# Altium footprint library Connector_Samtec_HLE_THT.PcbLib: 141 footprints (part 6 of 9)
Each footprint in its own frame and in the unit in brackets; x right, y up, seen from the top. Pads: shape width x height; smd on the part's side, far side on the other; paste and mask are expansions set on the pad; w line width, h text height; cw(c..) or ccw(c..) is an arc to the next point about the centre after c.
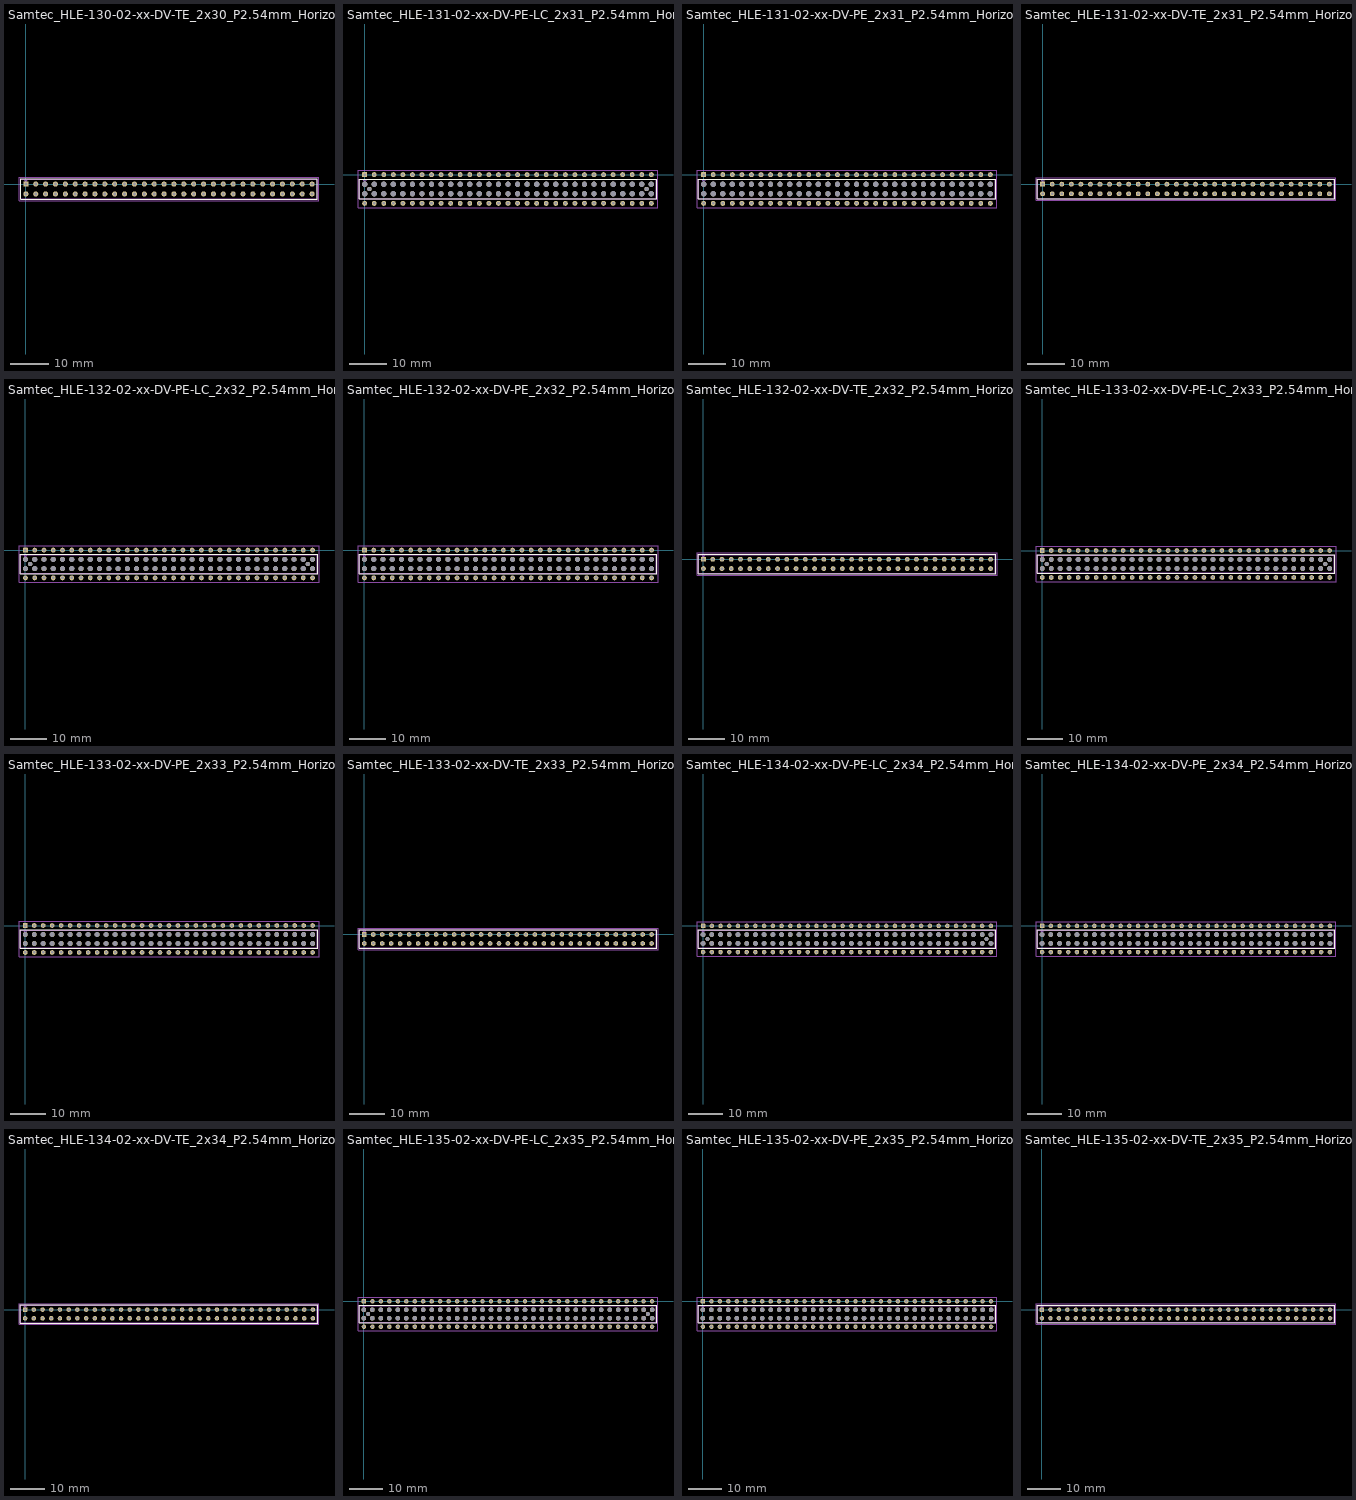
[diagram p5: the footprints below, top view; thin cyan lines are the x and y axes]

## Samtec_HLE-130-02-xx-DV-TE_2x30_P2.54mm_Horizontal [mm]
pads (60):
  rrect19% 1.31x1.31 hole 0.71: 1(0,0)
  round 1.31 hole 0.71: 2(0,-2.54) 3(2.54,0) 4(2.54,-2.54) 5(5.08,0) 6(5.08,-2.54) 7(7.62,0) 8(7.62,-2.54) 9(10.16,0) 10(10.16,-2.54) 11(12.7,0) 12(12.7,-2.54) 13(15.24,0) 14(15.24,-2.54) 15(17.78,0) 16(17.78,-2.54) 17(20.32,0) 18(20.32,-2.54) 19(22.86,0) 20(22.86,-2.54) 21(25.4,0) 22(25.4,-2.54) 23(27.94,0) 24(27.94,-2.54) 25(30.48,0) 26(30.48,-2.54) 27(33.02,0) 28(33.02,-2.54) 29(35.56,0) 30(35.56,-2.54) 31(38.1,0) 32(38.1,-2.54) 33(40.64,0) 34(40.64,-2.54) 35(43.18,0) 36(43.18,-2.54) 37(45.72,0) 38(45.72,-2.54) 39(48.26,0) 40(48.26,-2.54) 41(50.8,0) 42(50.8,-2.54) 43(53.34,0) 44(53.34,-2.54) 45(55.88,0) 46(55.88,-2.54) 47(58.42,0) 48(58.42,-2.54) 49(60.96,0) 50(60.96,-2.54) 51(63.5,0) 52(63.5,-2.54) 53(66.04,0) 54(66.04,-2.54) 55(68.58,0) 56(68.58,-2.54) 57(71.12,0) 58(71.12,-2.54) 59(73.66,0) 60(73.66,-2.54)
F.SilkS:
  lines w0.254: -1.38,-3.92 75.04,-3.92 75.04,1.38 -1.38,1.38 -1.38,-3.92
Top Assembly:
  lines w0.254: -0.5,1.27 0,0.563 0.5,1.27 ; -1.27,-3.81 74.93,-3.81 74.93,1.27 -1.27,1.27 -1.27,-3.81
  text "'.Designator'" at 32.783,-3.95 h1
Top Courtyard:
  lines w0.254: -1.77,-4.32 75.44,-4.32 75.44,1.77 -1.77,1.77 -1.77,-4.32
Top Designator:
  text ".Designator" at 29.217,-1.783 h1.52

## Samtec_HLE-131-02-xx-DV-PE-LC_2x31_P2.54mm_Horizontal [mm]
pads (126):
  rrect19% 1.31x1.31 hole 0.71: 1(0,0)
  round 1.31 hole 0.71: 2(0,-7.62) 3(2.54,0) 4(2.54,-7.62) 5(5.08,0) 6(5.08,-7.62) 7(7.62,0) 8(7.62,-7.62) 9(10.16,0) 10(10.16,-7.62) 11(12.7,0) 12(12.7,-7.62) 13(15.24,0) 14(15.24,-7.62) 15(17.78,0) 16(17.78,-7.62) 17(20.32,0) 18(20.32,-7.62) 19(22.86,0) 20(22.86,-7.62) 21(25.4,0) 22(25.4,-7.62) 23(27.94,0) 24(27.94,-7.62) 25(30.48,0) 26(30.48,-7.62) 27(33.02,0) 28(33.02,-7.62) 29(35.56,0) 30(35.56,-7.62) 31(38.1,0) 32(38.1,-7.62) 33(40.64,0) 34(40.64,-7.62) 35(43.18,0) 36(43.18,-7.62) 37(45.72,0) 38(45.72,-7.62) 39(48.26,0) 40(48.26,-7.62) 41(50.8,0) 42(50.8,-7.62) 43(53.34,0) 44(53.34,-7.62) 45(55.88,0) 46(55.88,-7.62) 47(58.42,0) 48(58.42,-7.62) 49(60.96,0) 50(60.96,-7.62) 51(63.5,0) 52(63.5,-7.62) 53(66.04,0) 54(66.04,-7.62) 55(68.58,0) 56(68.58,-7.62) 57(71.12,0) 58(71.12,-7.62) 59(73.66,0) 60(73.66,-7.62) 61(76.2,0) 62(76.2,-7.62)
  round 1.4 hole 1.4: Un1(0,-2.54) Un2(0,-5.08) Un4(2.54,-2.54) Un5(2.54,-5.08) Un6(5.08,-2.54) Un7(5.08,-5.08) Un8(7.62,-2.54) Un9(7.62,-5.08) Un10(10.16,-2.54) Un11(10.16,-5.08) Un12(12.7,-2.54) Un13(12.7,-5.08) Un14(15.24,-2.54) Un15(15.24,-5.08) Un16(17.78,-2.54) Un17(17.78,-5.08) Un18(20.32,-2.54) Un19(20.32,-5.08) Un20(22.86,-2.54) Un21(22.86,-5.08) Un22(25.4,-2.54) Un23(25.4,-5.08) Un24(27.94,-2.54) Un25(27.94,-5.08) Un26(30.48,-2.54) Un27(30.48,-5.08) Un28(33.02,-2.54) Un29(33.02,-5.08) Un30(35.56,-2.54) Un31(35.56,-5.08) Un32(38.1,-2.54) Un33(38.1,-5.08) Un34(40.64,-2.54) Un35(40.64,-5.08) Un36(43.18,-2.54) Un37(43.18,-5.08) Un38(45.72,-2.54) Un39(45.72,-5.08) Un40(48.26,-2.54) Un41(48.26,-5.08) Un42(50.8,-2.54) Un43(50.8,-5.08) Un44(53.34,-2.54) Un45(53.34,-5.08) Un46(55.88,-2.54) Un47(55.88,-5.08) Un48(58.42,-2.54) Un49(58.42,-5.08) Un50(60.96,-2.54) Un51(60.96,-5.08) Un52(63.5,-2.54) Un53(63.5,-5.08) Un54(66.04,-2.54) Un55(66.04,-5.08) Un56(68.58,-2.54) Un57(68.58,-5.08) Un58(71.12,-2.54) Un59(71.12,-5.08) Un60(73.66,-2.54) Un61(73.66,-5.08) Un63(76.2,-2.54) Un64(76.2,-5.08)
  round 1.19 hole 1.19: Un3(1.27,-3.81) Un62(74.93,-3.81)
F.SilkS:
  lines w0.254: -1.38,-6.46 77.58,-6.46 77.58,-1.16 -1.38,-1.16 -1.38,-6.46
Top Assembly:
  lines w0.254: -0.5,-1.27 0,-1.977 0.5,-1.27 ; -1.27,-6.35 77.47,-6.35 77.47,-1.27 -1.27,-1.27 -1.27,-6.35
  text "'.Designator'" at 34.053,-6.49 h1
Top Courtyard:
  lines w0.254: -1.77,-8.78 77.97,-8.78 77.97,1.16 -1.77,1.16 -1.77,-8.78
Top Designator:
  text ".Designator" at 30.482,-4.318 h1.52

## Samtec_HLE-131-02-xx-DV-PE_2x31_P2.54mm_Horizontal [mm]
pads (124):
  rrect19% 1.31x1.31 hole 0.71: 1(0,0)
  round 1.31 hole 0.71: 2(0,-7.62) 3(2.54,0) 4(2.54,-7.62) 5(5.08,0) 6(5.08,-7.62) 7(7.62,0) 8(7.62,-7.62) 9(10.16,0) 10(10.16,-7.62) 11(12.7,0) 12(12.7,-7.62) 13(15.24,0) 14(15.24,-7.62) 15(17.78,0) 16(17.78,-7.62) 17(20.32,0) 18(20.32,-7.62) 19(22.86,0) 20(22.86,-7.62) 21(25.4,0) 22(25.4,-7.62) 23(27.94,0) 24(27.94,-7.62) 25(30.48,0) 26(30.48,-7.62) 27(33.02,0) 28(33.02,-7.62) 29(35.56,0) 30(35.56,-7.62) 31(38.1,0) 32(38.1,-7.62) 33(40.64,0) 34(40.64,-7.62) 35(43.18,0) 36(43.18,-7.62) 37(45.72,0) 38(45.72,-7.62) 39(48.26,0) 40(48.26,-7.62) 41(50.8,0) 42(50.8,-7.62) 43(53.34,0) 44(53.34,-7.62) 45(55.88,0) 46(55.88,-7.62) 47(58.42,0) 48(58.42,-7.62) 49(60.96,0) 50(60.96,-7.62) 51(63.5,0) 52(63.5,-7.62) 53(66.04,0) 54(66.04,-7.62) 55(68.58,0) 56(68.58,-7.62) 57(71.12,0) 58(71.12,-7.62) 59(73.66,0) 60(73.66,-7.62) 61(76.2,0) 62(76.2,-7.62)
  round 1.4 hole 1.4: Un1(0,-2.54) Un2(0,-5.08) Un3(2.54,-2.54) Un4(2.54,-5.08) Un5(5.08,-2.54) Un6(5.08,-5.08) Un7(7.62,-2.54) Un8(7.62,-5.08) Un9(10.16,-2.54) Un10(10.16,-5.08) Un11(12.7,-2.54) Un12(12.7,-5.08) Un13(15.24,-2.54) Un14(15.24,-5.08) Un15(17.78,-2.54) Un16(17.78,-5.08) Un17(20.32,-2.54) Un18(20.32,-5.08) Un19(22.86,-2.54) Un20(22.86,-5.08) Un21(25.4,-2.54) Un22(25.4,-5.08) Un23(27.94,-2.54) Un24(27.94,-5.08) Un25(30.48,-2.54) Un26(30.48,-5.08) Un27(33.02,-2.54) Un28(33.02,-5.08) Un29(35.56,-2.54) Un30(35.56,-5.08) Un31(38.1,-2.54) Un32(38.1,-5.08) Un33(40.64,-2.54) Un34(40.64,-5.08) Un35(43.18,-2.54) Un36(43.18,-5.08) Un37(45.72,-2.54) Un38(45.72,-5.08) Un39(48.26,-2.54) Un40(48.26,-5.08) Un41(50.8,-2.54) Un42(50.8,-5.08) Un43(53.34,-2.54) Un44(53.34,-5.08) Un45(55.88,-2.54) Un46(55.88,-5.08) Un47(58.42,-2.54) Un48(58.42,-5.08) Un49(60.96,-2.54) Un50(60.96,-5.08) Un51(63.5,-2.54) Un52(63.5,-5.08) Un53(66.04,-2.54) Un54(66.04,-5.08) Un55(68.58,-2.54) Un56(68.58,-5.08) Un57(71.12,-2.54) Un58(71.12,-5.08) Un59(73.66,-2.54) Un60(73.66,-5.08) Un61(76.2,-2.54) Un62(76.2,-5.08)
F.SilkS:
  lines w0.254: -1.38,-6.46 77.58,-6.46 77.58,-1.16 -1.38,-1.16 -1.38,-6.46
Top Assembly:
  lines w0.254: -0.5,-1.27 0,-1.977 0.5,-1.27 ; -1.27,-6.35 77.47,-6.35 77.47,-1.27 -1.27,-1.27 -1.27,-6.35
  text "'.Designator'" at 34.053,-6.49 h1
Top Courtyard:
  lines w0.254: -1.77,-8.78 77.97,-8.78 77.97,1.16 -1.77,1.16 -1.77,-8.78
Top Designator:
  text ".Designator" at 30.482,-4.318 h1.52

## Samtec_HLE-131-02-xx-DV-TE_2x31_P2.54mm_Horizontal [mm]
pads (62):
  rrect19% 1.31x1.31 hole 0.71: 1(0,0)
  round 1.31 hole 0.71: 2(0,-2.54) 3(2.54,0) 4(2.54,-2.54) 5(5.08,0) 6(5.08,-2.54) 7(7.62,0) 8(7.62,-2.54) 9(10.16,0) 10(10.16,-2.54) 11(12.7,0) 12(12.7,-2.54) 13(15.24,0) 14(15.24,-2.54) 15(17.78,0) 16(17.78,-2.54) 17(20.32,0) 18(20.32,-2.54) 19(22.86,0) 20(22.86,-2.54) 21(25.4,0) 22(25.4,-2.54) 23(27.94,0) 24(27.94,-2.54) 25(30.48,0) 26(30.48,-2.54) 27(33.02,0) 28(33.02,-2.54) 29(35.56,0) 30(35.56,-2.54) 31(38.1,0) 32(38.1,-2.54) 33(40.64,0) 34(40.64,-2.54) 35(43.18,0) 36(43.18,-2.54) 37(45.72,0) 38(45.72,-2.54) 39(48.26,0) 40(48.26,-2.54) 41(50.8,0) 42(50.8,-2.54) 43(53.34,0) 44(53.34,-2.54) 45(55.88,0) 46(55.88,-2.54) 47(58.42,0) 48(58.42,-2.54) 49(60.96,0) 50(60.96,-2.54) 51(63.5,0) 52(63.5,-2.54) 53(66.04,0) 54(66.04,-2.54) 55(68.58,0) 56(68.58,-2.54) 57(71.12,0) 58(71.12,-2.54) 59(73.66,0) 60(73.66,-2.54) 61(76.2,0) 62(76.2,-2.54)
F.SilkS:
  lines w0.254: -1.38,-3.92 77.58,-3.92 77.58,1.38 -1.38,1.38 -1.38,-3.92
Top Assembly:
  lines w0.254: -0.5,1.27 0,0.563 0.5,1.27 ; -1.27,-3.81 77.47,-3.81 77.47,1.27 -1.27,1.27 -1.27,-3.81
  text "'.Designator'" at 34.053,-3.95 h1
Top Courtyard:
  lines w0.254: -1.77,-4.32 77.97,-4.32 77.97,1.77 -1.77,1.77 -1.77,-4.32
Top Designator:
  text ".Designator" at 30.482,-1.783 h1.52

## Samtec_HLE-132-02-xx-DV-PE-LC_2x32_P2.54mm_Horizontal [mm]
pads (130):
  rrect19% 1.31x1.31 hole 0.71: 1(0,0)
  round 1.31 hole 0.71: 2(0,-7.62) 3(2.54,0) 4(2.54,-7.62) 5(5.08,0) 6(5.08,-7.62) 7(7.62,0) 8(7.62,-7.62) 9(10.16,0) 10(10.16,-7.62) 11(12.7,0) 12(12.7,-7.62) 13(15.24,0) 14(15.24,-7.62) 15(17.78,0) 16(17.78,-7.62) 17(20.32,0) 18(20.32,-7.62) 19(22.86,0) 20(22.86,-7.62) 21(25.4,0) 22(25.4,-7.62) 23(27.94,0) 24(27.94,-7.62) 25(30.48,0) 26(30.48,-7.62) 27(33.02,0) 28(33.02,-7.62) 29(35.56,0) 30(35.56,-7.62) 31(38.1,0) 32(38.1,-7.62) 33(40.64,0) 34(40.64,-7.62) 35(43.18,0) 36(43.18,-7.62) 37(45.72,0) 38(45.72,-7.62) 39(48.26,0) 40(48.26,-7.62) 41(50.8,0) 42(50.8,-7.62) 43(53.34,0) 44(53.34,-7.62) 45(55.88,0) 46(55.88,-7.62) 47(58.42,0) 48(58.42,-7.62) 49(60.96,0) 50(60.96,-7.62) 51(63.5,0) 52(63.5,-7.62) 53(66.04,0) 54(66.04,-7.62) 55(68.58,0) 56(68.58,-7.62) 57(71.12,0) 58(71.12,-7.62) 59(73.66,0) 60(73.66,-7.62) 61(76.2,0) 62(76.2,-7.62) 63(78.74,0) 64(78.74,-7.62)
  round 1.4 hole 1.4: Un1(0,-2.54) Un2(0,-5.08) Un4(2.54,-2.54) Un5(2.54,-5.08) Un6(5.08,-2.54) Un7(5.08,-5.08) Un8(7.62,-2.54) Un9(7.62,-5.08) Un10(10.16,-2.54) Un11(10.16,-5.08) Un12(12.7,-2.54) Un13(12.7,-5.08) Un14(15.24,-2.54) Un15(15.24,-5.08) Un16(17.78,-2.54) Un17(17.78,-5.08) Un18(20.32,-2.54) Un19(20.32,-5.08) Un20(22.86,-2.54) Un21(22.86,-5.08) Un22(25.4,-2.54) Un23(25.4,-5.08) Un24(27.94,-2.54) Un25(27.94,-5.08) Un26(30.48,-2.54) Un27(30.48,-5.08) Un28(33.02,-2.54) Un29(33.02,-5.08) Un30(35.56,-2.54) Un31(35.56,-5.08) Un32(38.1,-2.54) Un33(38.1,-5.08) Un34(40.64,-2.54) Un35(40.64,-5.08) Un36(43.18,-2.54) Un37(43.18,-5.08) Un38(45.72,-2.54) Un39(45.72,-5.08) Un40(48.26,-2.54) Un41(48.26,-5.08) Un42(50.8,-2.54) Un43(50.8,-5.08) Un44(53.34,-2.54) Un45(53.34,-5.08) Un46(55.88,-2.54) Un47(55.88,-5.08) Un48(58.42,-2.54) Un49(58.42,-5.08) Un50(60.96,-2.54) Un51(60.96,-5.08) Un52(63.5,-2.54) Un53(63.5,-5.08) Un54(66.04,-2.54) Un55(66.04,-5.08) Un56(68.58,-2.54) Un57(68.58,-5.08) Un58(71.12,-2.54) Un59(71.12,-5.08) Un60(73.66,-2.54) Un61(73.66,-5.08) Un62(76.2,-2.54) Un63(76.2,-5.08) Un65(78.74,-2.54) Un66(78.74,-5.08)
  round 1.19 hole 1.19: Un3(1.27,-3.81) Un64(77.47,-3.81)
F.SilkS:
  lines w0.254: -1.38,-6.46 80.12,-6.46 80.12,-1.16 -1.38,-1.16 -1.38,-6.46
Top Assembly:
  lines w0.254: -0.5,-1.27 0,-1.977 0.5,-1.27 ; -1.27,-6.35 80.01,-6.35 80.01,-1.27 -1.27,-1.27 -1.27,-6.35
  text "'.Designator'" at 35.323,-6.49 h1
Top Courtyard:
  lines w0.254: -1.77,-8.78 80.51,-8.78 80.51,1.16 -1.77,1.16 -1.77,-8.78
Top Designator:
  text ".Designator" at 31.752,-4.318 h1.52

## Samtec_HLE-132-02-xx-DV-PE_2x32_P2.54mm_Horizontal [mm]
pads (128):
  rrect19% 1.31x1.31 hole 0.71: 1(0,0)
  round 1.31 hole 0.71: 2(0,-7.62) 3(2.54,0) 4(2.54,-7.62) 5(5.08,0) 6(5.08,-7.62) 7(7.62,0) 8(7.62,-7.62) 9(10.16,0) 10(10.16,-7.62) 11(12.7,0) 12(12.7,-7.62) 13(15.24,0) 14(15.24,-7.62) 15(17.78,0) 16(17.78,-7.62) 17(20.32,0) 18(20.32,-7.62) 19(22.86,0) 20(22.86,-7.62) 21(25.4,0) 22(25.4,-7.62) 23(27.94,0) 24(27.94,-7.62) 25(30.48,0) 26(30.48,-7.62) 27(33.02,0) 28(33.02,-7.62) 29(35.56,0) 30(35.56,-7.62) 31(38.1,0) 32(38.1,-7.62) 33(40.64,0) 34(40.64,-7.62) 35(43.18,0) 36(43.18,-7.62) 37(45.72,0) 38(45.72,-7.62) 39(48.26,0) 40(48.26,-7.62) 41(50.8,0) 42(50.8,-7.62) 43(53.34,0) 44(53.34,-7.62) 45(55.88,0) 46(55.88,-7.62) 47(58.42,0) 48(58.42,-7.62) 49(60.96,0) 50(60.96,-7.62) 51(63.5,0) 52(63.5,-7.62) 53(66.04,0) 54(66.04,-7.62) 55(68.58,0) 56(68.58,-7.62) 57(71.12,0) 58(71.12,-7.62) 59(73.66,0) 60(73.66,-7.62) 61(76.2,0) 62(76.2,-7.62) 63(78.74,0) 64(78.74,-7.62)
  round 1.4 hole 1.4: Un1(0,-2.54) Un2(0,-5.08) Un3(2.54,-2.54) Un4(2.54,-5.08) Un5(5.08,-2.54) Un6(5.08,-5.08) Un7(7.62,-2.54) Un8(7.62,-5.08) Un9(10.16,-2.54) Un10(10.16,-5.08) Un11(12.7,-2.54) Un12(12.7,-5.08) Un13(15.24,-2.54) Un14(15.24,-5.08) Un15(17.78,-2.54) Un16(17.78,-5.08) Un17(20.32,-2.54) Un18(20.32,-5.08) Un19(22.86,-2.54) Un20(22.86,-5.08) Un21(25.4,-2.54) Un22(25.4,-5.08) Un23(27.94,-2.54) Un24(27.94,-5.08) Un25(30.48,-2.54) Un26(30.48,-5.08) Un27(33.02,-2.54) Un28(33.02,-5.08) Un29(35.56,-2.54) Un30(35.56,-5.08) Un31(38.1,-2.54) Un32(38.1,-5.08) Un33(40.64,-2.54) Un34(40.64,-5.08) Un35(43.18,-2.54) Un36(43.18,-5.08) Un37(45.72,-2.54) Un38(45.72,-5.08) Un39(48.26,-2.54) Un40(48.26,-5.08) Un41(50.8,-2.54) Un42(50.8,-5.08) Un43(53.34,-2.54) Un44(53.34,-5.08) Un45(55.88,-2.54) Un46(55.88,-5.08) Un47(58.42,-2.54) Un48(58.42,-5.08) Un49(60.96,-2.54) Un50(60.96,-5.08) Un51(63.5,-2.54) Un52(63.5,-5.08) Un53(66.04,-2.54) Un54(66.04,-5.08) Un55(68.58,-2.54) Un56(68.58,-5.08) Un57(71.12,-2.54) Un58(71.12,-5.08) Un59(73.66,-2.54) Un60(73.66,-5.08) Un61(76.2,-2.54) Un62(76.2,-5.08) Un63(78.74,-2.54) Un64(78.74,-5.08)
F.SilkS:
  lines w0.254: -1.38,-6.46 80.12,-6.46 80.12,-1.16 -1.38,-1.16 -1.38,-6.46
Top Assembly:
  lines w0.254: -0.5,-1.27 0,-1.977 0.5,-1.27 ; -1.27,-6.35 80.01,-6.35 80.01,-1.27 -1.27,-1.27 -1.27,-6.35
  text "'.Designator'" at 35.323,-6.49 h1
Top Courtyard:
  lines w0.254: -1.77,-8.78 80.51,-8.78 80.51,1.16 -1.77,1.16 -1.77,-8.78
Top Designator:
  text ".Designator" at 31.752,-4.318 h1.52

## Samtec_HLE-132-02-xx-DV-TE_2x32_P2.54mm_Horizontal [mm]
pads (64):
  rrect19% 1.31x1.31 hole 0.71: 1(0,0)
  round 1.31 hole 0.71: 2(0,-2.54) 3(2.54,0) 4(2.54,-2.54) 5(5.08,0) 6(5.08,-2.54) 7(7.62,0) 8(7.62,-2.54) 9(10.16,0) 10(10.16,-2.54) 11(12.7,0) 12(12.7,-2.54) 13(15.24,0) 14(15.24,-2.54) 15(17.78,0) 16(17.78,-2.54) 17(20.32,0) 18(20.32,-2.54) 19(22.86,0) 20(22.86,-2.54) 21(25.4,0) 22(25.4,-2.54) 23(27.94,0) 24(27.94,-2.54) 25(30.48,0) 26(30.48,-2.54) 27(33.02,0) 28(33.02,-2.54) 29(35.56,0) 30(35.56,-2.54) 31(38.1,0) 32(38.1,-2.54) 33(40.64,0) 34(40.64,-2.54) 35(43.18,0) 36(43.18,-2.54) 37(45.72,0) 38(45.72,-2.54) 39(48.26,0) 40(48.26,-2.54) 41(50.8,0) 42(50.8,-2.54) 43(53.34,0) 44(53.34,-2.54) 45(55.88,0) 46(55.88,-2.54) 47(58.42,0) 48(58.42,-2.54) 49(60.96,0) 50(60.96,-2.54) 51(63.5,0) 52(63.5,-2.54) 53(66.04,0) 54(66.04,-2.54) 55(68.58,0) 56(68.58,-2.54) 57(71.12,0) 58(71.12,-2.54) 59(73.66,0) 60(73.66,-2.54) 61(76.2,0) 62(76.2,-2.54) 63(78.74,0) 64(78.74,-2.54)
F.SilkS:
  lines w0.254: -1.38,-3.92 80.12,-3.92 80.12,1.38 -1.38,1.38 -1.38,-3.92
Top Assembly:
  lines w0.254: -0.5,1.27 0,0.563 0.5,1.27 ; -1.27,-3.81 80.01,-3.81 80.01,1.27 -1.27,1.27 -1.27,-3.81
  text "'.Designator'" at 35.323,-3.95 h1
Top Courtyard:
  lines w0.254: -1.77,-4.32 80.51,-4.32 80.51,1.77 -1.77,1.77 -1.77,-4.32
Top Designator:
  text ".Designator" at 31.752,-1.783 h1.52

## Samtec_HLE-133-02-xx-DV-PE-LC_2x33_P2.54mm_Horizontal [mm]
pads (134):
  rrect19% 1.31x1.31 hole 0.71: 1(0,0)
  round 1.31 hole 0.71: 2(0,-7.62) 3(2.54,0) 4(2.54,-7.62) 5(5.08,0) 6(5.08,-7.62) 7(7.62,0) 8(7.62,-7.62) 9(10.16,0) 10(10.16,-7.62) 11(12.7,0) 12(12.7,-7.62) 13(15.24,0) 14(15.24,-7.62) 15(17.78,0) 16(17.78,-7.62) 17(20.32,0) 18(20.32,-7.62) 19(22.86,0) 20(22.86,-7.62) 21(25.4,0) 22(25.4,-7.62) 23(27.94,0) 24(27.94,-7.62) 25(30.48,0) 26(30.48,-7.62) 27(33.02,0) 28(33.02,-7.62) 29(35.56,0) 30(35.56,-7.62) 31(38.1,0) 32(38.1,-7.62) 33(40.64,0) 34(40.64,-7.62) 35(43.18,0) 36(43.18,-7.62) 37(45.72,0) 38(45.72,-7.62) 39(48.26,0) 40(48.26,-7.62) 41(50.8,0) 42(50.8,-7.62) 43(53.34,0) 44(53.34,-7.62) 45(55.88,0) 46(55.88,-7.62) 47(58.42,0) 48(58.42,-7.62) 49(60.96,0) 50(60.96,-7.62) 51(63.5,0) 52(63.5,-7.62) 53(66.04,0) 54(66.04,-7.62) 55(68.58,0) 56(68.58,-7.62) 57(71.12,0) 58(71.12,-7.62) 59(73.66,0) 60(73.66,-7.62) 61(76.2,0) 62(76.2,-7.62) 63(78.74,0) 64(78.74,-7.62) 65(81.28,0) 66(81.28,-7.62)
  round 1.4 hole 1.4: Un1(0,-2.54) Un2(0,-5.08) Un4(2.54,-2.54) Un5(2.54,-5.08) Un6(5.08,-2.54) Un7(5.08,-5.08) Un8(7.62,-2.54) Un9(7.62,-5.08) Un10(10.16,-2.54) Un11(10.16,-5.08) Un12(12.7,-2.54) Un13(12.7,-5.08) Un14(15.24,-2.54) Un15(15.24,-5.08) Un16(17.78,-2.54) Un17(17.78,-5.08) Un18(20.32,-2.54) Un19(20.32,-5.08) Un20(22.86,-2.54) Un21(22.86,-5.08) Un22(25.4,-2.54) Un23(25.4,-5.08) Un24(27.94,-2.54) Un25(27.94,-5.08) Un26(30.48,-2.54) Un27(30.48,-5.08) Un28(33.02,-2.54) Un29(33.02,-5.08) Un30(35.56,-2.54) Un31(35.56,-5.08) Un32(38.1,-2.54) Un33(38.1,-5.08) Un34(40.64,-2.54) Un35(40.64,-5.08) Un36(43.18,-2.54) Un37(43.18,-5.08) Un38(45.72,-2.54) Un39(45.72,-5.08) Un40(48.26,-2.54) Un41(48.26,-5.08) Un42(50.8,-2.54) Un43(50.8,-5.08) Un44(53.34,-2.54) Un45(53.34,-5.08) Un46(55.88,-2.54) Un47(55.88,-5.08) Un48(58.42,-2.54) Un49(58.42,-5.08) Un50(60.96,-2.54) Un51(60.96,-5.08) Un52(63.5,-2.54) Un53(63.5,-5.08) Un54(66.04,-2.54) Un55(66.04,-5.08) Un56(68.58,-2.54) Un57(68.58,-5.08) Un58(71.12,-2.54) Un59(71.12,-5.08) Un60(73.66,-2.54) Un61(73.66,-5.08) Un62(76.2,-2.54) Un63(76.2,-5.08) Un64(78.74,-2.54) Un65(78.74,-5.08) Un67(81.28,-2.54) Un68(81.28,-5.08)
  round 1.19 hole 1.19: Un3(1.27,-3.81) Un66(80.01,-3.81)
F.SilkS:
  lines w0.254: -1.38,-6.46 82.66,-6.46 82.66,-1.16 -1.38,-1.16 -1.38,-6.46
Top Assembly:
  lines w0.254: -0.5,-1.27 0,-1.977 0.5,-1.27 ; -1.27,-6.35 82.55,-6.35 82.55,-1.27 -1.27,-1.27 -1.27,-6.35
  text "'.Designator'" at 36.593,-6.49 h1
Top Courtyard:
  lines w0.254: -1.77,-8.78 83.06,-8.78 83.06,1.16 -1.77,1.16 -1.77,-8.78
Top Designator:
  text ".Designator" at 33.027,-4.318 h1.52

## Samtec_HLE-133-02-xx-DV-PE_2x33_P2.54mm_Horizontal [mm]
pads (132):
  rrect19% 1.31x1.31 hole 0.71: 1(0,0)
  round 1.31 hole 0.71: 2(0,-7.62) 3(2.54,0) 4(2.54,-7.62) 5(5.08,0) 6(5.08,-7.62) 7(7.62,0) 8(7.62,-7.62) 9(10.16,0) 10(10.16,-7.62) 11(12.7,0) 12(12.7,-7.62) 13(15.24,0) 14(15.24,-7.62) 15(17.78,0) 16(17.78,-7.62) 17(20.32,0) 18(20.32,-7.62) 19(22.86,0) 20(22.86,-7.62) 21(25.4,0) 22(25.4,-7.62) 23(27.94,0) 24(27.94,-7.62) 25(30.48,0) 26(30.48,-7.62) 27(33.02,0) 28(33.02,-7.62) 29(35.56,0) 30(35.56,-7.62) 31(38.1,0) 32(38.1,-7.62) 33(40.64,0) 34(40.64,-7.62) 35(43.18,0) 36(43.18,-7.62) 37(45.72,0) 38(45.72,-7.62) 39(48.26,0) 40(48.26,-7.62) 41(50.8,0) 42(50.8,-7.62) 43(53.34,0) 44(53.34,-7.62) 45(55.88,0) 46(55.88,-7.62) 47(58.42,0) 48(58.42,-7.62) 49(60.96,0) 50(60.96,-7.62) 51(63.5,0) 52(63.5,-7.62) 53(66.04,0) 54(66.04,-7.62) 55(68.58,0) 56(68.58,-7.62) 57(71.12,0) 58(71.12,-7.62) 59(73.66,0) 60(73.66,-7.62) 61(76.2,0) 62(76.2,-7.62) 63(78.74,0) 64(78.74,-7.62) 65(81.28,0) 66(81.28,-7.62)
  round 1.4 hole 1.4: Un1(0,-2.54) Un2(0,-5.08) Un3(2.54,-2.54) Un4(2.54,-5.08) Un5(5.08,-2.54) Un6(5.08,-5.08) Un7(7.62,-2.54) Un8(7.62,-5.08) Un9(10.16,-2.54) Un10(10.16,-5.08) Un11(12.7,-2.54) Un12(12.7,-5.08) Un13(15.24,-2.54) Un14(15.24,-5.08) Un15(17.78,-2.54) Un16(17.78,-5.08) Un17(20.32,-2.54) Un18(20.32,-5.08) Un19(22.86,-2.54) Un20(22.86,-5.08) Un21(25.4,-2.54) Un22(25.4,-5.08) Un23(27.94,-2.54) Un24(27.94,-5.08) Un25(30.48,-2.54) Un26(30.48,-5.08) Un27(33.02,-2.54) Un28(33.02,-5.08) Un29(35.56,-2.54) Un30(35.56,-5.08) Un31(38.1,-2.54) Un32(38.1,-5.08) Un33(40.64,-2.54) Un34(40.64,-5.08) Un35(43.18,-2.54) Un36(43.18,-5.08) Un37(45.72,-2.54) Un38(45.72,-5.08) Un39(48.26,-2.54) Un40(48.26,-5.08) Un41(50.8,-2.54) Un42(50.8,-5.08) Un43(53.34,-2.54) Un44(53.34,-5.08) Un45(55.88,-2.54) Un46(55.88,-5.08) Un47(58.42,-2.54) Un48(58.42,-5.08) Un49(60.96,-2.54) Un50(60.96,-5.08) Un51(63.5,-2.54) Un52(63.5,-5.08) Un53(66.04,-2.54) Un54(66.04,-5.08) Un55(68.58,-2.54) Un56(68.58,-5.08) Un57(71.12,-2.54) Un58(71.12,-5.08) Un59(73.66,-2.54) Un60(73.66,-5.08) Un61(76.2,-2.54) Un62(76.2,-5.08) Un63(78.74,-2.54) Un64(78.74,-5.08) Un65(81.28,-2.54) Un66(81.28,-5.08)
F.SilkS:
  lines w0.254: -1.38,-6.46 82.66,-6.46 82.66,-1.16 -1.38,-1.16 -1.38,-6.46
Top Assembly:
  lines w0.254: -0.5,-1.27 0,-1.977 0.5,-1.27 ; -1.27,-6.35 82.55,-6.35 82.55,-1.27 -1.27,-1.27 -1.27,-6.35
  text "'.Designator'" at 36.593,-6.49 h1
Top Courtyard:
  lines w0.254: -1.77,-8.78 83.06,-8.78 83.06,1.16 -1.77,1.16 -1.77,-8.78
Top Designator:
  text ".Designator" at 33.027,-4.318 h1.52

## Samtec_HLE-133-02-xx-DV-TE_2x33_P2.54mm_Horizontal [mm]
pads (66):
  rrect19% 1.31x1.31 hole 0.71: 1(0,0)
  round 1.31 hole 0.71: 2(0,-2.54) 3(2.54,0) 4(2.54,-2.54) 5(5.08,0) 6(5.08,-2.54) 7(7.62,0) 8(7.62,-2.54) 9(10.16,0) 10(10.16,-2.54) 11(12.7,0) 12(12.7,-2.54) 13(15.24,0) 14(15.24,-2.54) 15(17.78,0) 16(17.78,-2.54) 17(20.32,0) 18(20.32,-2.54) 19(22.86,0) 20(22.86,-2.54) 21(25.4,0) 22(25.4,-2.54) 23(27.94,0) 24(27.94,-2.54) 25(30.48,0) 26(30.48,-2.54) 27(33.02,0) 28(33.02,-2.54) 29(35.56,0) 30(35.56,-2.54) 31(38.1,0) 32(38.1,-2.54) 33(40.64,0) 34(40.64,-2.54) 35(43.18,0) 36(43.18,-2.54) 37(45.72,0) 38(45.72,-2.54) 39(48.26,0) 40(48.26,-2.54) 41(50.8,0) 42(50.8,-2.54) 43(53.34,0) 44(53.34,-2.54) 45(55.88,0) 46(55.88,-2.54) 47(58.42,0) 48(58.42,-2.54) 49(60.96,0) 50(60.96,-2.54) 51(63.5,0) 52(63.5,-2.54) 53(66.04,0) 54(66.04,-2.54) 55(68.58,0) 56(68.58,-2.54) 57(71.12,0) 58(71.12,-2.54) 59(73.66,0) 60(73.66,-2.54) 61(76.2,0) 62(76.2,-2.54) 63(78.74,0) 64(78.74,-2.54) 65(81.28,0) 66(81.28,-2.54)
F.SilkS:
  lines w0.254: -1.38,-3.92 82.66,-3.92 82.66,1.38 -1.38,1.38 -1.38,-3.92
Top Assembly:
  lines w0.254: -0.5,1.27 0,0.563 0.5,1.27 ; -1.27,-3.81 82.55,-3.81 82.55,1.27 -1.27,1.27 -1.27,-3.81
  text "'.Designator'" at 36.593,-3.95 h1
Top Courtyard:
  lines w0.254: -1.77,-4.32 83.06,-4.32 83.06,1.77 -1.77,1.77 -1.77,-4.32
Top Designator:
  text ".Designator" at 33.027,-1.783 h1.52

## Samtec_HLE-134-02-xx-DV-PE-LC_2x34_P2.54mm_Horizontal [mm]
pads (138):
  rrect19% 1.31x1.31 hole 0.71: 1(0,0)
  round 1.31 hole 0.71: 2(0,-7.62) 3(2.54,0) 4(2.54,-7.62) 5(5.08,0) 6(5.08,-7.62) 7(7.62,0) 8(7.62,-7.62) 9(10.16,0) 10(10.16,-7.62) 11(12.7,0) 12(12.7,-7.62) 13(15.24,0) 14(15.24,-7.62) 15(17.78,0) 16(17.78,-7.62) 17(20.32,0) 18(20.32,-7.62) 19(22.86,0) 20(22.86,-7.62) 21(25.4,0) 22(25.4,-7.62) 23(27.94,0) 24(27.94,-7.62) 25(30.48,0) 26(30.48,-7.62) 27(33.02,0) 28(33.02,-7.62) 29(35.56,0) 30(35.56,-7.62) 31(38.1,0) 32(38.1,-7.62) 33(40.64,0) 34(40.64,-7.62) 35(43.18,0) 36(43.18,-7.62) 37(45.72,0) 38(45.72,-7.62) 39(48.26,0) 40(48.26,-7.62) 41(50.8,0) 42(50.8,-7.62) 43(53.34,0) 44(53.34,-7.62) 45(55.88,0) 46(55.88,-7.62) 47(58.42,0) 48(58.42,-7.62) 49(60.96,0) 50(60.96,-7.62) 51(63.5,0) 52(63.5,-7.62) 53(66.04,0) 54(66.04,-7.62) 55(68.58,0) 56(68.58,-7.62) 57(71.12,0) 58(71.12,-7.62) 59(73.66,0) 60(73.66,-7.62) 61(76.2,0) 62(76.2,-7.62) 63(78.74,0) 64(78.74,-7.62) 65(81.28,0) 66(81.28,-7.62) 67(83.82,0) 68(83.82,-7.62)
  round 1.4 hole 1.4: Un1(0,-2.54) Un2(0,-5.08) Un4(2.54,-2.54) Un5(2.54,-5.08) Un6(5.08,-2.54) Un7(5.08,-5.08) Un8(7.62,-2.54) Un9(7.62,-5.08) Un10(10.16,-2.54) Un11(10.16,-5.08) Un12(12.7,-2.54) Un13(12.7,-5.08) Un14(15.24,-2.54) Un15(15.24,-5.08) Un16(17.78,-2.54) Un17(17.78,-5.08) Un18(20.32,-2.54) Un19(20.32,-5.08) Un20(22.86,-2.54) Un21(22.86,-5.08) Un22(25.4,-2.54) Un23(25.4,-5.08) Un24(27.94,-2.54) Un25(27.94,-5.08) Un26(30.48,-2.54) Un27(30.48,-5.08) Un28(33.02,-2.54) Un29(33.02,-5.08) Un30(35.56,-2.54) Un31(35.56,-5.08) Un32(38.1,-2.54) Un33(38.1,-5.08) Un34(40.64,-2.54) Un35(40.64,-5.08) Un36(43.18,-2.54) Un37(43.18,-5.08) Un38(45.72,-2.54) Un39(45.72,-5.08) Un40(48.26,-2.54) Un41(48.26,-5.08) Un42(50.8,-2.54) Un43(50.8,-5.08) Un44(53.34,-2.54) Un45(53.34,-5.08) Un46(55.88,-2.54) Un47(55.88,-5.08) Un48(58.42,-2.54) Un49(58.42,-5.08) Un50(60.96,-2.54) Un51(60.96,-5.08) Un52(63.5,-2.54) Un53(63.5,-5.08) Un54(66.04,-2.54) Un55(66.04,-5.08) Un56(68.58,-2.54) Un57(68.58,-5.08) Un58(71.12,-2.54) Un59(71.12,-5.08) Un60(73.66,-2.54) Un61(73.66,-5.08) Un62(76.2,-2.54) Un63(76.2,-5.08) Un64(78.74,-2.54) Un65(78.74,-5.08) Un66(81.28,-2.54) Un67(81.28,-5.08) Un69(83.82,-2.54) Un70(83.82,-5.08)
  round 1.19 hole 1.19: Un3(1.27,-3.81) Un68(82.55,-3.81)
F.SilkS:
  lines w0.254: -1.38,-6.46 85.2,-6.46 85.2,-1.16 -1.38,-1.16 -1.38,-6.46
Top Assembly:
  lines w0.254: -0.5,-1.27 0,-1.977 0.5,-1.27 ; -1.27,-6.35 85.09,-6.35 85.09,-1.27 -1.27,-1.27 -1.27,-6.35
  text "'.Designator'" at 37.863,-6.49 h1
Top Courtyard:
  lines w0.254: -1.77,-8.78 85.59,-8.78 85.59,1.16 -1.77,1.16 -1.77,-8.78
Top Designator:
  text ".Designator" at 34.292,-4.318 h1.52

## Samtec_HLE-134-02-xx-DV-PE_2x34_P2.54mm_Horizontal [mm]
pads (136):
  rrect19% 1.31x1.31 hole 0.71: 1(0,0)
  round 1.31 hole 0.71: 2(0,-7.62) 3(2.54,0) 4(2.54,-7.62) 5(5.08,0) 6(5.08,-7.62) 7(7.62,0) 8(7.62,-7.62) 9(10.16,0) 10(10.16,-7.62) 11(12.7,0) 12(12.7,-7.62) 13(15.24,0) 14(15.24,-7.62) 15(17.78,0) 16(17.78,-7.62) 17(20.32,0) 18(20.32,-7.62) 19(22.86,0) 20(22.86,-7.62) 21(25.4,0) 22(25.4,-7.62) 23(27.94,0) 24(27.94,-7.62) 25(30.48,0) 26(30.48,-7.62) 27(33.02,0) 28(33.02,-7.62) 29(35.56,0) 30(35.56,-7.62) 31(38.1,0) 32(38.1,-7.62) 33(40.64,0) 34(40.64,-7.62) 35(43.18,0) 36(43.18,-7.62) 37(45.72,0) 38(45.72,-7.62) 39(48.26,0) 40(48.26,-7.62) 41(50.8,0) 42(50.8,-7.62) 43(53.34,0) 44(53.34,-7.62) 45(55.88,0) 46(55.88,-7.62) 47(58.42,0) 48(58.42,-7.62) 49(60.96,0) 50(60.96,-7.62) 51(63.5,0) 52(63.5,-7.62) 53(66.04,0) 54(66.04,-7.62) 55(68.58,0) 56(68.58,-7.62) 57(71.12,0) 58(71.12,-7.62) 59(73.66,0) 60(73.66,-7.62) 61(76.2,0) 62(76.2,-7.62) 63(78.74,0) 64(78.74,-7.62) 65(81.28,0) 66(81.28,-7.62) 67(83.82,0) 68(83.82,-7.62)
  round 1.4 hole 1.4: Un1(0,-2.54) Un2(0,-5.08) Un3(2.54,-2.54) Un4(2.54,-5.08) Un5(5.08,-2.54) Un6(5.08,-5.08) Un7(7.62,-2.54) Un8(7.62,-5.08) Un9(10.16,-2.54) Un10(10.16,-5.08) Un11(12.7,-2.54) Un12(12.7,-5.08) Un13(15.24,-2.54) Un14(15.24,-5.08) Un15(17.78,-2.54) Un16(17.78,-5.08) Un17(20.32,-2.54) Un18(20.32,-5.08) Un19(22.86,-2.54) Un20(22.86,-5.08) Un21(25.4,-2.54) Un22(25.4,-5.08) Un23(27.94,-2.54) Un24(27.94,-5.08) Un25(30.48,-2.54) Un26(30.48,-5.08) Un27(33.02,-2.54) Un28(33.02,-5.08) Un29(35.56,-2.54) Un30(35.56,-5.08) Un31(38.1,-2.54) Un32(38.1,-5.08) Un33(40.64,-2.54) Un34(40.64,-5.08) Un35(43.18,-2.54) Un36(43.18,-5.08) Un37(45.72,-2.54) Un38(45.72,-5.08) Un39(48.26,-2.54) Un40(48.26,-5.08) Un41(50.8,-2.54) Un42(50.8,-5.08) Un43(53.34,-2.54) Un44(53.34,-5.08) Un45(55.88,-2.54) Un46(55.88,-5.08) Un47(58.42,-2.54) Un48(58.42,-5.08) Un49(60.96,-2.54) Un50(60.96,-5.08) Un51(63.5,-2.54) Un52(63.5,-5.08) Un53(66.04,-2.54) Un54(66.04,-5.08) Un55(68.58,-2.54) Un56(68.58,-5.08) Un57(71.12,-2.54) Un58(71.12,-5.08) Un59(73.66,-2.54) Un60(73.66,-5.08) Un61(76.2,-2.54) Un62(76.2,-5.08) Un63(78.74,-2.54) Un64(78.74,-5.08) Un65(81.28,-2.54) Un66(81.28,-5.08) Un67(83.82,-2.54) Un68(83.82,-5.08)
F.SilkS:
  lines w0.254: -1.38,-6.46 85.2,-6.46 85.2,-1.16 -1.38,-1.16 -1.38,-6.46
Top Assembly:
  lines w0.254: -0.5,-1.27 0,-1.977 0.5,-1.27 ; -1.27,-6.35 85.09,-6.35 85.09,-1.27 -1.27,-1.27 -1.27,-6.35
  text "'.Designator'" at 37.863,-6.49 h1
Top Courtyard:
  lines w0.254: -1.77,-8.78 85.59,-8.78 85.59,1.16 -1.77,1.16 -1.77,-8.78
Top Designator:
  text ".Designator" at 34.292,-4.318 h1.52

## Samtec_HLE-134-02-xx-DV-TE_2x34_P2.54mm_Horizontal [mm]
pads (68):
  rrect19% 1.31x1.31 hole 0.71: 1(0,0)
  round 1.31 hole 0.71: 2(0,-2.54) 3(2.54,0) 4(2.54,-2.54) 5(5.08,0) 6(5.08,-2.54) 7(7.62,0) 8(7.62,-2.54) 9(10.16,0) 10(10.16,-2.54) 11(12.7,0) 12(12.7,-2.54) 13(15.24,0) 14(15.24,-2.54) 15(17.78,0) 16(17.78,-2.54) 17(20.32,0) 18(20.32,-2.54) 19(22.86,0) 20(22.86,-2.54) 21(25.4,0) 22(25.4,-2.54) 23(27.94,0) 24(27.94,-2.54) 25(30.48,0) 26(30.48,-2.54) 27(33.02,0) 28(33.02,-2.54) 29(35.56,0) 30(35.56,-2.54) 31(38.1,0) 32(38.1,-2.54) 33(40.64,0) 34(40.64,-2.54) 35(43.18,0) 36(43.18,-2.54) 37(45.72,0) 38(45.72,-2.54) 39(48.26,0) 40(48.26,-2.54) 41(50.8,0) 42(50.8,-2.54) 43(53.34,0) 44(53.34,-2.54) 45(55.88,0) 46(55.88,-2.54) 47(58.42,0) 48(58.42,-2.54) 49(60.96,0) 50(60.96,-2.54) 51(63.5,0) 52(63.5,-2.54) 53(66.04,0) 54(66.04,-2.54) 55(68.58,0) 56(68.58,-2.54) 57(71.12,0) 58(71.12,-2.54) 59(73.66,0) 60(73.66,-2.54) 61(76.2,0) 62(76.2,-2.54) 63(78.74,0) 64(78.74,-2.54) 65(81.28,0) 66(81.28,-2.54) 67(83.82,0) 68(83.82,-2.54)
F.SilkS:
  lines w0.254: -1.38,-3.92 85.2,-3.92 85.2,1.38 -1.38,1.38 -1.38,-3.92
Top Assembly:
  lines w0.254: -0.5,1.27 0,0.563 0.5,1.27 ; -1.27,-3.81 85.09,-3.81 85.09,1.27 -1.27,1.27 -1.27,-3.81
  text "'.Designator'" at 37.863,-3.95 h1
Top Courtyard:
  lines w0.254: -1.77,-4.32 85.59,-4.32 85.59,1.77 -1.77,1.77 -1.77,-4.32
Top Designator:
  text ".Designator" at 34.292,-1.783 h1.52

## Samtec_HLE-135-02-xx-DV-PE-LC_2x35_P2.54mm_Horizontal [mm]
pads (142):
  rrect19% 1.31x1.31 hole 0.71: 1(0,0)
  round 1.31 hole 0.71: 2(0,-7.62) 3(2.54,0) 4(2.54,-7.62) 5(5.08,0) 6(5.08,-7.62) 7(7.62,0) 8(7.62,-7.62) 9(10.16,0) 10(10.16,-7.62) 11(12.7,0) 12(12.7,-7.62) 13(15.24,0) 14(15.24,-7.62) 15(17.78,0) 16(17.78,-7.62) 17(20.32,0) 18(20.32,-7.62) 19(22.86,0) 20(22.86,-7.62) 21(25.4,0) 22(25.4,-7.62) 23(27.94,0) 24(27.94,-7.62) 25(30.48,0) 26(30.48,-7.62) 27(33.02,0) 28(33.02,-7.62) 29(35.56,0) 30(35.56,-7.62) 31(38.1,0) 32(38.1,-7.62) 33(40.64,0) 34(40.64,-7.62) 35(43.18,0) 36(43.18,-7.62) 37(45.72,0) 38(45.72,-7.62) 39(48.26,0) 40(48.26,-7.62) 41(50.8,0) 42(50.8,-7.62) 43(53.34,0) 44(53.34,-7.62) 45(55.88,0) 46(55.88,-7.62) 47(58.42,0) 48(58.42,-7.62) 49(60.96,0) 50(60.96,-7.62) 51(63.5,0) 52(63.5,-7.62) 53(66.04,0) 54(66.04,-7.62) 55(68.58,0) 56(68.58,-7.62) 57(71.12,0) 58(71.12,-7.62) 59(73.66,0) 60(73.66,-7.62) 61(76.2,0) 62(76.2,-7.62) 63(78.74,0) 64(78.74,-7.62) 65(81.28,0) 66(81.28,-7.62) 67(83.82,0) 68(83.82,-7.62) 69(86.36,0) 70(86.36,-7.62)
  round 1.4 hole 1.4: Un1(0,-2.54) Un2(0,-5.08) Un4(2.54,-2.54) Un5(2.54,-5.08) Un6(5.08,-2.54) Un7(5.08,-5.08) Un8(7.62,-2.54) Un9(7.62,-5.08) Un10(10.16,-2.54) Un11(10.16,-5.08) Un12(12.7,-2.54) Un13(12.7,-5.08) Un14(15.24,-2.54) Un15(15.24,-5.08) Un16(17.78,-2.54) Un17(17.78,-5.08) Un18(20.32,-2.54) Un19(20.32,-5.08) Un20(22.86,-2.54) Un21(22.86,-5.08) Un22(25.4,-2.54) Un23(25.4,-5.08) Un24(27.94,-2.54) Un25(27.94,-5.08) Un26(30.48,-2.54) Un27(30.48,-5.08) Un28(33.02,-2.54) Un29(33.02,-5.08) Un30(35.56,-2.54) Un31(35.56,-5.08) Un32(38.1,-2.54) Un33(38.1,-5.08) Un34(40.64,-2.54) Un35(40.64,-5.08) Un36(43.18,-2.54) Un37(43.18,-5.08) Un38(45.72,-2.54) Un39(45.72,-5.08) Un40(48.26,-2.54) Un41(48.26,-5.08) Un42(50.8,-2.54) Un43(50.8,-5.08) Un44(53.34,-2.54) Un45(53.34,-5.08) Un46(55.88,-2.54) Un47(55.88,-5.08) Un48(58.42,-2.54) Un49(58.42,-5.08) Un50(60.96,-2.54) Un51(60.96,-5.08) Un52(63.5,-2.54) Un53(63.5,-5.08) Un54(66.04,-2.54) Un55(66.04,-5.08) Un56(68.58,-2.54) Un57(68.58,-5.08) Un58(71.12,-2.54) Un59(71.12,-5.08) Un60(73.66,-2.54) Un61(73.66,-5.08) Un62(76.2,-2.54) Un63(76.2,-5.08) Un64(78.74,-2.54) Un65(78.74,-5.08) Un66(81.28,-2.54) Un67(81.28,-5.08) Un68(83.82,-2.54) Un69(83.82,-5.08) Un71(86.36,-2.54) Un72(86.36,-5.08)
  round 1.19 hole 1.19: Un3(1.27,-3.81) Un70(85.09,-3.81)
F.SilkS:
  lines w0.254: -1.38,-6.46 87.74,-6.46 87.74,-1.16 -1.38,-1.16 -1.38,-6.46
Top Assembly:
  lines w0.254: -0.5,-1.27 0,-1.977 0.5,-1.27 ; -1.27,-6.35 87.63,-6.35 87.63,-1.27 -1.27,-1.27 -1.27,-6.35
  text "'.Designator'" at 39.133,-6.49 h1
Top Courtyard:
  lines w0.254: -1.77,-8.78 88.13,-8.78 88.13,1.16 -1.77,1.16 -1.77,-8.78
Top Designator:
  text ".Designator" at 35.562,-4.318 h1.52

## Samtec_HLE-135-02-xx-DV-PE_2x35_P2.54mm_Horizontal [mm]
pads (140):
  rrect19% 1.31x1.31 hole 0.71: 1(0,0)
  round 1.31 hole 0.71: 2(0,-7.62) 3(2.54,0) 4(2.54,-7.62) 5(5.08,0) 6(5.08,-7.62) 7(7.62,0) 8(7.62,-7.62) 9(10.16,0) 10(10.16,-7.62) 11(12.7,0) 12(12.7,-7.62) 13(15.24,0) 14(15.24,-7.62) 15(17.78,0) 16(17.78,-7.62) 17(20.32,0) 18(20.32,-7.62) 19(22.86,0) 20(22.86,-7.62) 21(25.4,0) 22(25.4,-7.62) 23(27.94,0) 24(27.94,-7.62) 25(30.48,0) 26(30.48,-7.62) 27(33.02,0) 28(33.02,-7.62) 29(35.56,0) 30(35.56,-7.62) 31(38.1,0) 32(38.1,-7.62) 33(40.64,0) 34(40.64,-7.62) 35(43.18,0) 36(43.18,-7.62) 37(45.72,0) 38(45.72,-7.62) 39(48.26,0) 40(48.26,-7.62) 41(50.8,0) 42(50.8,-7.62) 43(53.34,0) 44(53.34,-7.62) 45(55.88,0) 46(55.88,-7.62) 47(58.42,0) 48(58.42,-7.62) 49(60.96,0) 50(60.96,-7.62) 51(63.5,0) 52(63.5,-7.62) 53(66.04,0) 54(66.04,-7.62) 55(68.58,0) 56(68.58,-7.62) 57(71.12,0) 58(71.12,-7.62) 59(73.66,0) 60(73.66,-7.62) 61(76.2,0) 62(76.2,-7.62) 63(78.74,0) 64(78.74,-7.62) 65(81.28,0) 66(81.28,-7.62) 67(83.82,0) 68(83.82,-7.62) 69(86.36,0) 70(86.36,-7.62)
  round 1.4 hole 1.4: Un1(0,-2.54) Un2(0,-5.08) Un3(2.54,-2.54) Un4(2.54,-5.08) Un5(5.08,-2.54) Un6(5.08,-5.08) Un7(7.62,-2.54) Un8(7.62,-5.08) Un9(10.16,-2.54) Un10(10.16,-5.08) Un11(12.7,-2.54) Un12(12.7,-5.08) Un13(15.24,-2.54) Un14(15.24,-5.08) Un15(17.78,-2.54) Un16(17.78,-5.08) Un17(20.32,-2.54) Un18(20.32,-5.08) Un19(22.86,-2.54) Un20(22.86,-5.08) Un21(25.4,-2.54) Un22(25.4,-5.08) Un23(27.94,-2.54) Un24(27.94,-5.08) Un25(30.48,-2.54) Un26(30.48,-5.08) Un27(33.02,-2.54) Un28(33.02,-5.08) Un29(35.56,-2.54) Un30(35.56,-5.08) Un31(38.1,-2.54) Un32(38.1,-5.08) Un33(40.64,-2.54) Un34(40.64,-5.08) Un35(43.18,-2.54) Un36(43.18,-5.08) Un37(45.72,-2.54) Un38(45.72,-5.08) Un39(48.26,-2.54) Un40(48.26,-5.08) Un41(50.8,-2.54) Un42(50.8,-5.08) Un43(53.34,-2.54) Un44(53.34,-5.08) Un45(55.88,-2.54) Un46(55.88,-5.08) Un47(58.42,-2.54) Un48(58.42,-5.08) Un49(60.96,-2.54) Un50(60.96,-5.08) Un51(63.5,-2.54) Un52(63.5,-5.08) Un53(66.04,-2.54) Un54(66.04,-5.08) Un55(68.58,-2.54) Un56(68.58,-5.08) Un57(71.12,-2.54) Un58(71.12,-5.08) Un59(73.66,-2.54) Un60(73.66,-5.08) Un61(76.2,-2.54) Un62(76.2,-5.08) Un63(78.74,-2.54) Un64(78.74,-5.08) Un65(81.28,-2.54) Un66(81.28,-5.08) Un67(83.82,-2.54) Un68(83.82,-5.08) Un69(86.36,-2.54) Un70(86.36,-5.08)
F.SilkS:
  lines w0.254: -1.38,-6.46 87.74,-6.46 87.74,-1.16 -1.38,-1.16 -1.38,-6.46
Top Assembly:
  lines w0.254: -0.5,-1.27 0,-1.977 0.5,-1.27 ; -1.27,-6.35 87.63,-6.35 87.63,-1.27 -1.27,-1.27 -1.27,-6.35
  text "'.Designator'" at 39.133,-6.49 h1
Top Courtyard:
  lines w0.254: -1.77,-8.78 88.13,-8.78 88.13,1.16 -1.77,1.16 -1.77,-8.78
Top Designator:
  text ".Designator" at 35.562,-4.318 h1.52

## Samtec_HLE-135-02-xx-DV-TE_2x35_P2.54mm_Horizontal [mm]
pads (70):
  rrect19% 1.31x1.31 hole 0.71: 1(0,0)
  round 1.31 hole 0.71: 2(0,-2.54) 3(2.54,0) 4(2.54,-2.54) 5(5.08,0) 6(5.08,-2.54) 7(7.62,0) 8(7.62,-2.54) 9(10.16,0) 10(10.16,-2.54) 11(12.7,0) 12(12.7,-2.54) 13(15.24,0) 14(15.24,-2.54) 15(17.78,0) 16(17.78,-2.54) 17(20.32,0) 18(20.32,-2.54) 19(22.86,0) 20(22.86,-2.54) 21(25.4,0) 22(25.4,-2.54) 23(27.94,0) 24(27.94,-2.54) 25(30.48,0) 26(30.48,-2.54) 27(33.02,0) 28(33.02,-2.54) 29(35.56,0) 30(35.56,-2.54) 31(38.1,0) 32(38.1,-2.54) 33(40.64,0) 34(40.64,-2.54) 35(43.18,0) 36(43.18,-2.54) 37(45.72,0) 38(45.72,-2.54) 39(48.26,0) 40(48.26,-2.54) 41(50.8,0) 42(50.8,-2.54) 43(53.34,0) 44(53.34,-2.54) 45(55.88,0) 46(55.88,-2.54) 47(58.42,0) 48(58.42,-2.54) 49(60.96,0) 50(60.96,-2.54) 51(63.5,0) 52(63.5,-2.54) 53(66.04,0) 54(66.04,-2.54) 55(68.58,0) 56(68.58,-2.54) 57(71.12,0) 58(71.12,-2.54) 59(73.66,0) 60(73.66,-2.54) 61(76.2,0) 62(76.2,-2.54) 63(78.74,0) 64(78.74,-2.54) 65(81.28,0) 66(81.28,-2.54) 67(83.82,0) 68(83.82,-2.54) 69(86.36,0) 70(86.36,-2.54)
F.SilkS:
  lines w0.254: -1.38,-3.92 87.74,-3.92 87.74,1.38 -1.38,1.38 -1.38,-3.92
Top Assembly:
  lines w0.254: -0.5,1.27 0,0.563 0.5,1.27 ; -1.27,-3.81 87.63,-3.81 87.63,1.27 -1.27,1.27 -1.27,-3.81
  text "'.Designator'" at 39.133,-3.95 h1
Top Courtyard:
  lines w0.254: -1.77,-4.32 88.13,-4.32 88.13,1.77 -1.77,1.77 -1.77,-4.32
Top Designator:
  text ".Designator" at 35.562,-1.783 h1.52